# EAGLE library part M25P64 (library JLB6_Processor)
Flash SPI type AT25
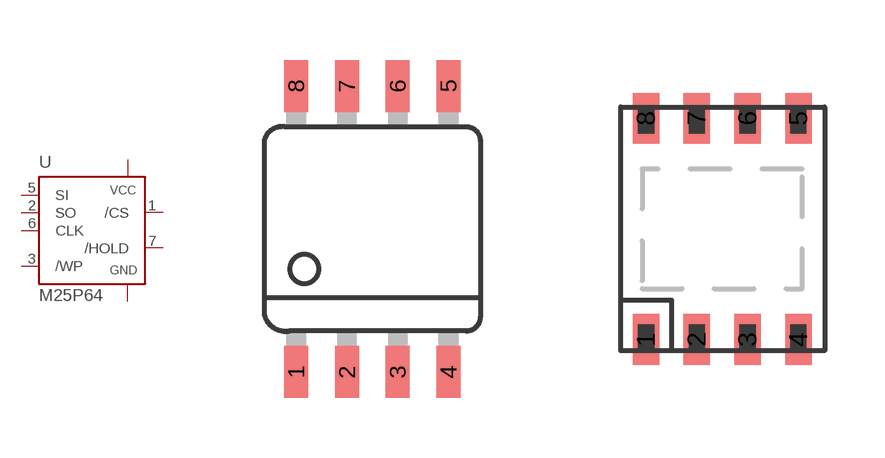
[diagram p23: symbol with the pads of SO-08M; footprints SO-08M, SAP8]

Designator prefix U

## M25P64SO8-200  [SO-08M]
1  /CS  in
2  SO
3  /WP  pas
4  GND  pwr
5  SI  in
6  CLK  in
7  /HOLD  in
8  VCC  pwr

## M25P64SAP8  [SAP8]
Pads as for SO-08M

## Footprint SO-08M (pad centres in mm)
Small Outline Medium Plastic Gull Wing 207-mil body, package type SM
smd 0.6 x 1.3: 1 -1.905,-3.58; 2 -0.635,-3.58; 3 0.635,-3.58; 4 1.905,-3.58; 5 1.905,3.58; 6 0.635,3.58; 7 -0.635,3.58; 8 -1.905,3.58

## Footprint SAP8 (pad centres in mm)
smd 0.66 x 1.27: 1 -1.905,-2.769; 2 -0.635,-2.769; 3 0.635,-2.769; 4 1.905,-2.769; 5 1.905,2.769; 6 0.635,2.769; 7 -0.635,2.769; 8 -1.905,2.769